# Altium schematic symbol library ATSAME70.SchLib: 1 symbol
Pins are listed as number, name and electrical type; pins without a type are passive.

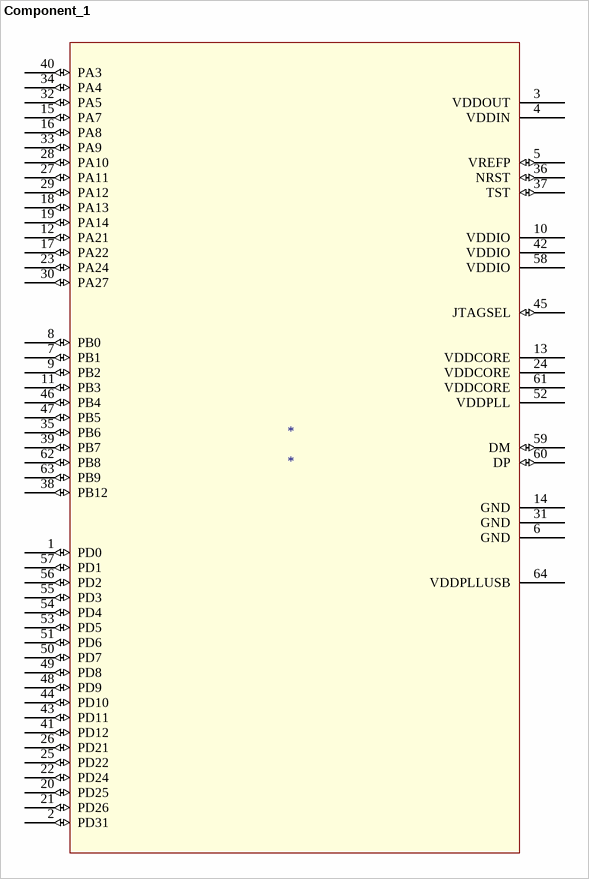
[diagram p0: symbol Component_1]

## Component_1
designator *
pins: 1 PD0 (io), 2 PD31 (io), 3 VDDOUT (power), 4 VDDIN (power), 5 VREFP (io), 6 GND (power), 7 PB1 (io), 8 PB0 (io), 9 PB2 (io), 10 VDDIO (power), 11 PB3 (io), 12 PA21 (io), 13 VDDCORE (power), 14 GND (power), 15 PA7 (io), 16 PA8 (io), 17 PA22 (io), 18 PA13 (io), 19 PA14 (io), 20 PD25 (io), 21 PD26 (io), 22 PD24 (io), 23 PA24 (io), 24 VDDCORE (power), 25 PD22 (io), 26 PD21 (io), 27 PA11 (io), 28 PA10 (io), 29 PA12 (io), 30 PA27 (io), 31 GND (power), 32 PA5 (io), 33 PA9 (io), 34 PA4 (io), 35 PB6 (io), 36 NRST (io), 37 TST (io), 38 PB12 (io), 39 PB7 (io), 40 PA3 (io), 41 PD12 (io), 42 VDDIO (power), 43 PD11 (io), 44 PD10 (io), 45 JTAGSEL (io), 46 PB4 (io), 47 PB5 (io), 48 PD9 (io), 49 PD8 (io), 50 PD7 (io), 51 PD6 (io), 52 VDDPLL (power), 53 PD5 (io), 54 PD4 (io), 55 PD3 (io), 56 PD2 (io), 57 PD1 (io), 58 VDDIO (power), 59 DM (io), 60 DP (io), 61 VDDCORE (power), 62 PB8 (io), 63 PB9 (io), 64 VDDPLLUSB (power)